# Altium integrated library TI Power Management Battery Management.IntLib: 949 symbols (part 2 of 62)
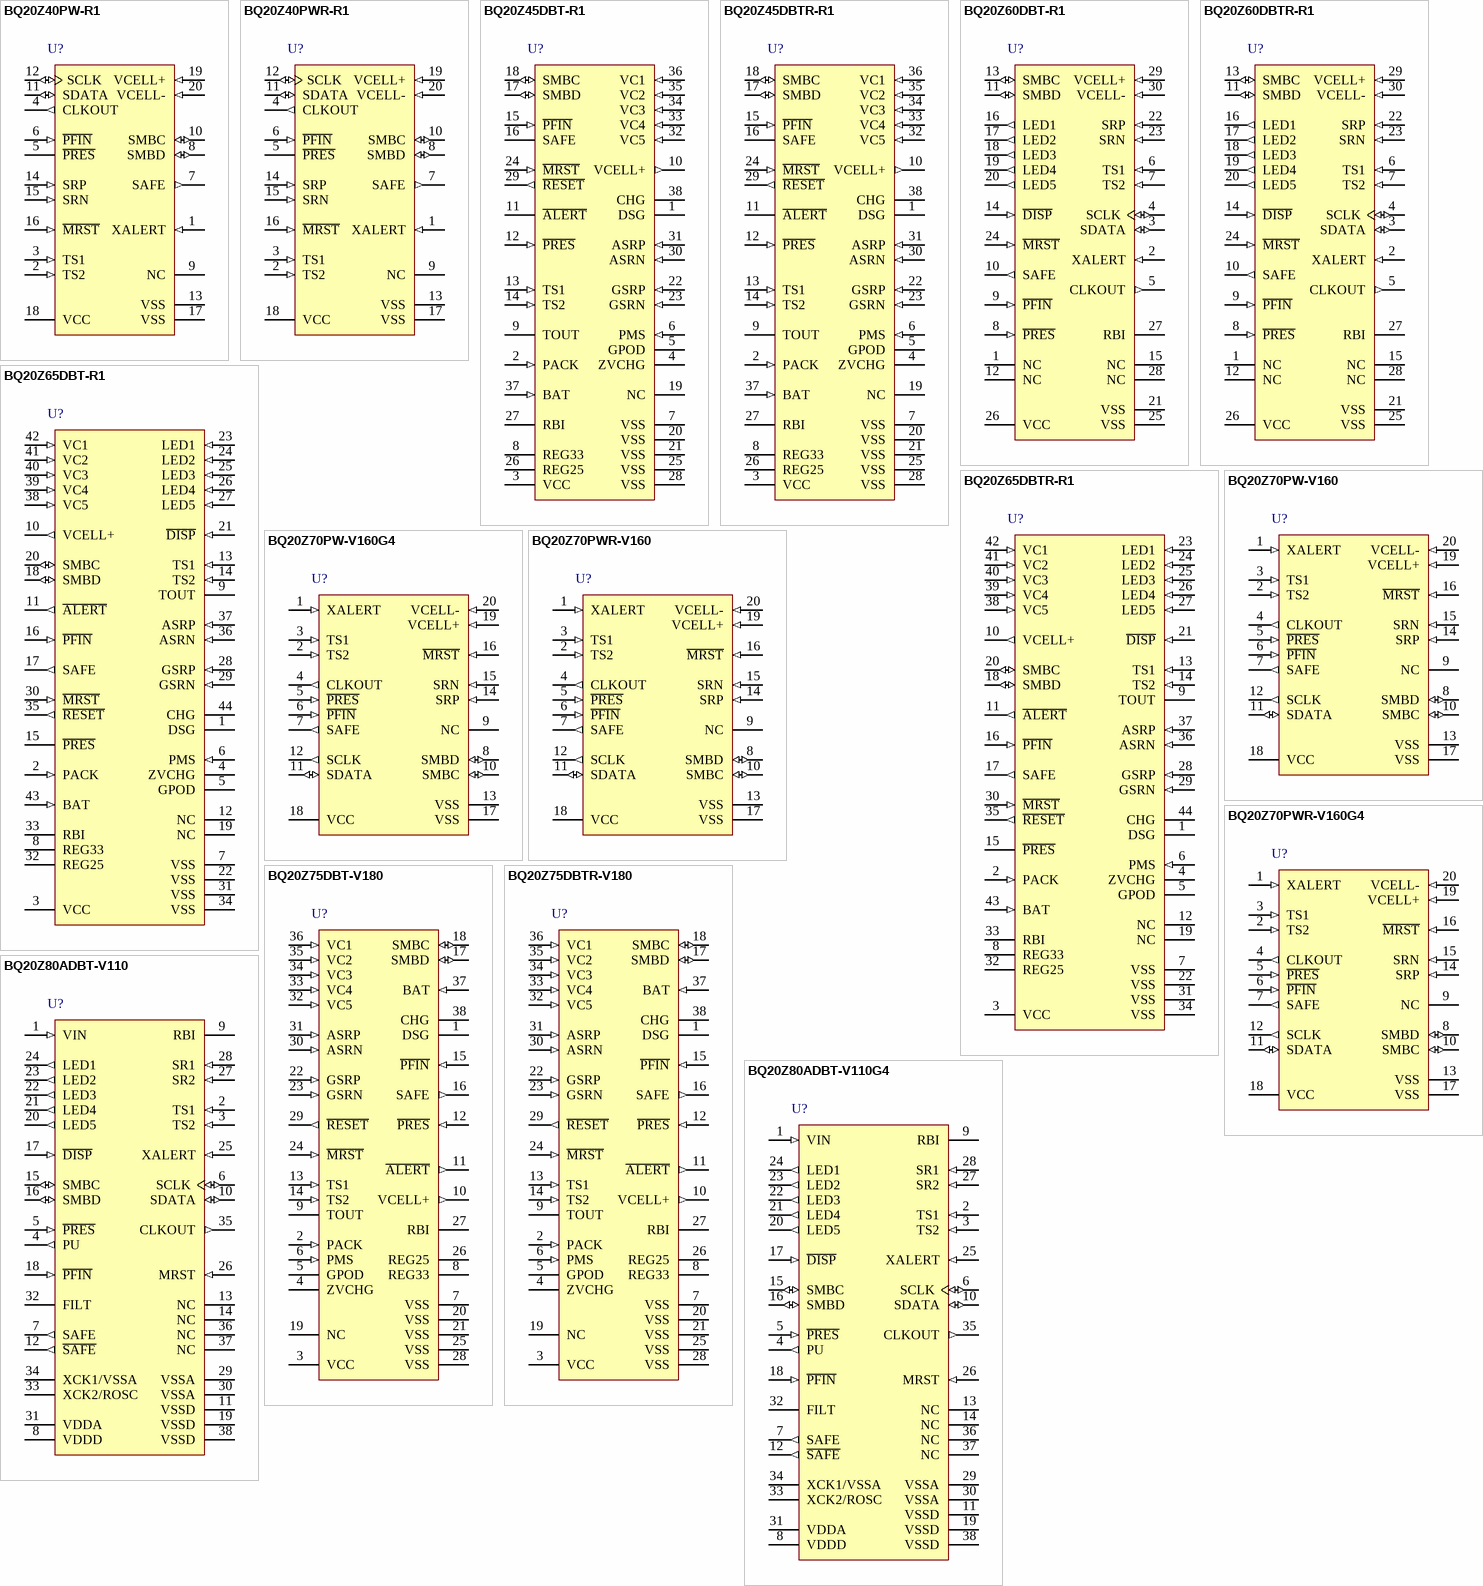
[diagram p35: symbols BQ20Z40PW-R1 to BQ20Z80ADBT-V110G4]

## BQ20Z75DBT-V180
designator U?
SBS 1.1 Compliant Gas Gauge and Protection-Enabled IC with Impedance Track (TM), -40 to 85 degC, 38-pin TSSOP (DBT), Green (RoHS & no Sb/Br); PartNumber: BQ20Z75DBT-V180; Manufacturer: Texas Instruments; Lead Acid: N; SubFamily: Battery Fuel Gauge; DatasheetVersion: SLUSA22; PackageVersion: revI, Mar-2011; PackageReference: DBT38; PackageDescription: 38-Pin Plastic Small Outline 0.5 mm Pitch; Supplier 1: Digi-Key; Supplier Part Number 1: 296-32834-5-ND; Supplier 2: Newark; Supplier Part Number 2: 72R5021; Supplier 3: Mouser; Supplier Part Number 3: 595-BQ20Z75DBT-V180; Eco-Plan: Green (RoHS & no Sb/Br); Li-Ion: N; Li-Polymer: N; NiCd: N; NiMH: N; Over Voltage Protection: N; Mounting Technology: Surface Mount; Code_JEDEC: MO-153; ComponentLink1Description: Datasheet; ComponentLink1URL: http://www.ti.com/general/docs/lit/getliterature.tsp?genericPartNumber=BQ20Z75-V180&fileType=pdf
footprint DBT38_N (TSSOP, 38-Leads, Body 9.7x4.4mm, Pitch 0.5mm, IPC Medium Density)
footprint DBT38_L (TSSOP, 38-Leads, Body 9.7x4.4mm, Pitch 0.5mm, IPC High Density)
footprint DBT38_M (TSSOP, 38-Leads, Body 9.7x4.4mm, Pitch 0.5mm, IPC Low Density)
pins: 1 DSG "High side N-channel discharge FET gate drive", 2 PACK (in) "Battery pack input voltage sense input. It also serves as device wake up when device is in shutdown mode.", 3 VCC (power) "Positive device supply input. Connect to the center connection of the CHG FET and DSG FET to ensure device supply either from battery stack or battery pack input", 4 ZVCHG "P-channel pre-charge FET gate drive", 5 GPOD (oc) "High voltage general purpose open drain output. Can be configured to be used in pre-charge condition", 6 PMS (in) "Pre-charge mode setting input. Connect to PACK to enable 0v pre-charge using charge FET connected at CHG pin. Connect to VSS to disable 0V pre-charge using charge FET connected at CHG pin.", 7 VSS (power) "Negative device power supply input. Connect all VSS pins together for operation of device", 8 REG33 (power) "3.3V regulator output. Connect at least a 2.2uF capacitor to REG33 and VSS", 9 TOUT (power) "Termistor bias supply output", 10 VCELL+ (out) "Internal cell voltage multiplexer and amplifier output. Connect a 0.1uF capacitor to VCELL+ and VSS", 11 ~{ALERT} (out) "Alert output. In case of short circuit condition, overload condition and watchdog time out this pin will be triggered.", 12 ~{PRES} (in) "System / Host present input. Pull up to TOUT", 13 TS1 (in) "Temperature sensor 1 input", 14 TS2 (in) "Temperature sensor 2 input", 15 ~{PFIN} (in) "Fuse blow detection input", 16 SAFE (out) "blow fuse signal output", 17 SMBD (io) "SMBus data line", 18 SMBC (io) "SMBus clock line", 19 NC "Not Connected", 20 VSS (power) "Negative device power supply input. Connect all VSS pins together for operation of device.", 21 VSS (power) "Negative device power supply input. Connect all VSS pins together for operation of device.", 22 GSRP (in) "Coulomb counter differential input. Connect to one side of the sense resistor", 23 GSRN (in) "Coulomb counter differential input. Connect to one side of the sense resistor", 24 ~{MRST} (in) "Reset input for internal CPU core. connect to R\E\S\E\T\ for correct operation of device.", 25 VSS (power) "Negative device power supply input. Connect all VSS pins together for operation of device.", 26 REG25 (power) "2.5V regulator output. Connect at least a 1uF capacitor to REG25 and VSS", 27 RBI (power) "RAM backup input. Connect a capacitor to this pin and VSS to protect loss of RAM data in case of short-circuit condition", 28 VSS (power) "Negative device power supply input. Connect all VSS pins together for operation of device", 29 ~{RESET} (out) "Reset output. Connect to M\S\R\T\.", 30 ASRN (in) "Short-circuit and overload detection differential input", 31 ASRP (in) "Short-circuit and overload detection differential input", 32 VC5 (in) "Cell voltage sense input and cell balancing input for the negative voltage of the bottom cell in cell stack.", 33 VC4 (in) "Cell voltage sense input and cell balancing input for the positive voltage of the bottom cell and the negative voltage of the second lowest cell in cell stack.", 34 VC3 (in) "Cell voltage sense input and cell balancing input for the positive voltage of the second lowest cell in cell stack and the negative voltage of the second highest cell in 4 cell applications.", 35 VC2 (in) "Cell voltage sense input and cell balancing input for the positive voltage of the second highest cell and the negative voltage of the highest cell in 4 cell applications. Connect to VC3 in 2 cell stack applications", 36 VC1 (in) "Cell voltage sense input and cell balancing input for the positive voltage of the highest cell in cell stack in 4 cell applications. Connect to VC2 in 3 or 2 cell stack applications", 37 BAT (in) "Battery stack voltage sense input", 38 CHG "High side N-channel charge FET gate drive"

## BQ20Z75DBTR-V180
designator U?
SBS 1.1 Compliant Gas Gauge and Protection-Enabled IC with Impedance Track (TM), -40 to 85 degC, 38-pin TSSOP (DBT), Green (RoHS & no Sb/Br); PartNumber: BQ20Z75DBTR-V180; Manufacturer: Texas Instruments; Lead Acid: N; SubFamily: Battery Fuel Gauge; DatasheetVersion: SLUSA22; PackageVersion: revI, Mar-2011; PackageReference: DBT38; PackageDescription: 38-Pin Plastic Small Outline 0.5 mm Pitch; Supplier 1: Digi-Key; Supplier Part Number 1: 296-27262-2-ND; Supplier 2: Digi-Key; Supplier Part Number 2: 296-27262-1-ND; Supplier 3: Digi-Key; Supplier Part Number 3: 296-27262-6-ND; Supplier 4: Newark; Supplier Part Number 4: 72R5022; Supplier 5: Mouser; Supplier Part Number 5: 595-BQ20Z75DBTR-V180; Eco-Plan: Green (RoHS & no Sb/Br); Li-Ion: N; Li-Polymer: N; NiCd: N; NiMH: N; Over Voltage Protection: N; Mounting Technology: Surface Mount; Code_JEDEC: MO-153; ComponentLink1Description: Datasheet; ComponentLink1URL: http://www.ti.com/general/docs/lit/getliterature.tsp?genericPartNumber=BQ20Z75-V180&fileType=pdf
footprint DBT38_N (TSSOP, 38-Leads, Body 9.7x4.4mm, Pitch 0.5mm, IPC Medium Density)
footprint DBT38_L (TSSOP, 38-Leads, Body 9.7x4.4mm, Pitch 0.5mm, IPC High Density)
footprint DBT38_M (TSSOP, 38-Leads, Body 9.7x4.4mm, Pitch 0.5mm, IPC Low Density)
pins: 1 DSG "High side N-channel discharge FET gate drive", 2 PACK (in) "Battery pack input voltage sense input. It also serves as device wake up when device is in shutdown mode.", 3 VCC (power) "Positive device supply input. Connect to the center connection of the CHG FET and DSG FET to ensure device supply either from battery stack or battery pack input", 4 ZVCHG "P-channel pre-charge FET gate drive", 5 GPOD (oc) "High voltage general purpose open drain output. Can be configured to be used in pre-charge condition", 6 PMS (in) "Pre-charge mode setting input. Connect to PACK to enable 0v pre-charge using charge FET connected at CHG pin. Connect to VSS to disable 0V pre-charge using charge FET connected at CHG pin.", 7 VSS (power) "Negative device power supply input. Connect all VSS pins together for operation of device", 8 REG33 (power) "3.3V regulator output. Connect at least a 2.2uF capacitor to REG33 and VSS", 9 TOUT (power) "Termistor bias supply output", 10 VCELL+ (out) "Internal cell voltage multiplexer and amplifier output. Connect a 0.1uF capacitor to VCELL+ and VSS", 11 ~{ALERT} (out) "Alert output. In case of short circuit condition, overload condition and watchdog time out this pin will be triggered.", 12 ~{PRES} (in) "System / Host present input. Pull up to TOUT", 13 TS1 (in) "Temperature sensor 1 input", 14 TS2 (in) "Temperature sensor 2 input", 15 ~{PFIN} (in) "Fuse blow detection input", 16 SAFE (out) "blow fuse signal output", 17 SMBD (io) "SMBus data line", 18 SMBC (io) "SMBus clock line", 19 NC "Not Connected", 20 VSS (power) "Negative device power supply input. Connect all VSS pins together for operation of device.", 21 VSS (power) "Negative device power supply input. Connect all VSS pins together for operation of device.", 22 GSRP (in) "Coulomb counter differential input. Connect to one side of the sense resistor", 23 GSRN (in) "Coulomb counter differential input. Connect to one side of the sense resistor", 24 ~{MRST} (in) "Reset input for internal CPU core. connect to R\E\S\E\T\ for correct operation of device.", 25 VSS (power) "Negative device power supply input. Connect all VSS pins together for operation of device.", 26 REG25 (power) "2.5V regulator output. Connect at least a 1uF capacitor to REG25 and VSS", 27 RBI (power) "RAM backup input. Connect a capacitor to this pin and VSS to protect loss of RAM data in case of short-circuit condition", 28 VSS (power) "Negative device power supply input. Connect all VSS pins together for operation of device", 29 ~{RESET} (out) "Reset output. Connect to M\S\R\T\.", 30 ASRN (in) "Short-circuit and overload detection differential input", 31 ASRP (in) "Short-circuit and overload detection differential input", 32 VC5 (in) "Cell voltage sense input and cell balancing input for the negative voltage of the bottom cell in cell stack.", 33 VC4 (in) "Cell voltage sense input and cell balancing input for the positive voltage of the bottom cell and the negative voltage of the second lowest cell in cell stack.", 34 VC3 (in) "Cell voltage sense input and cell balancing input for the positive voltage of the second lowest cell in cell stack and the negative voltage of the second highest cell in 4 cell applications.", 35 VC2 (in) "Cell voltage sense input and cell balancing input for the positive voltage of the second highest cell and the negative voltage of the highest cell in 4 cell applications. Connect to VC3 in 2 cell stack applications", 36 VC1 (in) "Cell voltage sense input and cell balancing input for the positive voltage of the highest cell in cell stack in 4 cell applications. Connect to VC2 in 3 or 2 cell stack applications", 37 BAT (in) "Battery stack voltage sense input", 38 CHG "High side N-channel charge FET gate drive"

## BQ20Z80ADBT-V110
designator U?
SBS 1.1 Compliant Gas Gauge Enabled with Impedance Track Technology for Use with the bq29312A, -40 to 85 degC, 38-pin TSSOP (DBT), Green (RoHS & no Sb/Br); PartNumber: BQ20Z80ADBT-V110; Manufacturer: Texas Instruments; Lead Acid: N; Li-Ion: Y; SubFamily: Battery Fuel Gauge; DatasheetVersion: SLUS782; PackageVersion: revI, Mar-2011; PackageReference: DBT38; PackageDescription: 38-Pin Plastic Small Outline 0.5 mm Pitch; Supplier 1: Digi-Key; Supplier Part Number 1: 296-22554-5-ND; Supplier 2: Newark; Supplier Part Number 2: 54M6816; Supplier 3: Mouser; Supplier Part Number 3: 595-BQ20Z80ADBT-V110; Eco-Plan: Green (RoHS & no Sb/Br); Li-Polymer: N; NiCd: N; NiMH: N; Over Voltage Protection: N; Mounting Technology: Surface Mount; Code_JEDEC: MO-153; ComponentLink1Description: Datasheet; ComponentLink1URL: http://www.ti.com/general/docs/lit/getliterature.tsp?genericPartNumber=BQ20Z80A-V110&fileType=pdf
footprint DBT38_N (TSSOP, 38-Leads, Body 9.7x4.4mm, Pitch 0.5mm, IPC Medium Density)
footprint DBT38_L (TSSOP, 38-Leads, Body 9.7x4.4mm, Pitch 0.5mm, IPC High Density)
footprint DBT38_M (TSSOP, 38-Leads, Body 9.7x4.4mm, Pitch 0.5mm, IPC Low Density)
pins: 1 VIN (in) "Voltage measurement input from the AFE", 2 TS1 (in) "1st Thermistor voltage input connection to monitor temperature", 3 TS2 (in) "2nd Thermistor voltage input connection to monitor temperature", 4 PU (out) "Output to pull up the P\R\E\S\ pin for system detection", 5 ~{PRES} (in) "Active low input to sense system insertion and typically requires additional ESD protection", 6 SCLK (io) "Communication clock to the AFE", 7 SAFE (out) "Active low output to enforce additional level of safety protection; e.g., fuse blow. (Inverse of pin 7)", 8 VDDD (power) "Positive supply for digital circuitry and I/O pins", 9 RBI (power) "Backup power to the bq20z80 data registers during periods of low operating voltage. RBI accepts a storage capacitor or a battery input.", 10 SDATA (io) "Data transfer to and from the AFE", 11 VSSD (power) "Negative supply for digital circuitry", 12 ~{SAFE} (out) "Active low output to enforce additional level of safety protection; e.g., fuse blow. (Inverse of pin 7)", 13 NC "Not used-- leave floating", 14 NC "Not used-- leave floating", 15 SMBC (io) "SMBus clock open-drain bidirectional pin used to clock the data transfer to and from the bq20z80", 16 SMBD (io) "SMBus data open-drain bidirectional pin used to transfer address and data to and from the bq20z80", 17 ~{DISP} (in) "Display control for the LEDs. This pin is typically connected to bq29312A REG via a 100-kohm resistor and a push-button switch to VSSD.", 18 ~{PFIN} (in) "Active low input to detect secondary protector output status and allows the bq20z80 to report the status of the 2nd level protection output", 19 VSSD (power) "Negative supply for digital circuitry", 20 LED5 (out) "LED5 display segment that drives an external LED depending on the firmware configuration", 21 LED4 (out) "LED4 display segment that drives an external LED depending on the firmware configuration", 22 LED3 (out) "LED3 display segment that drives an external LED depending on the firmware configuration", 23 LED2 (out) "LED2 display segment that drives an external LED depending on the firmware configuration", 24 LED1 (out) "LED1 display segment that drives an external LED depending on the firmware configuration", 25 XALERT (in) "Input from bq29312A XALERT output.", 26 MRST (in) "Master reset input that forces the device into reset when held high", 27 SR2 (in) "Connections for a small-value sense resistor to monitor the battery charge- and discharge-current flow", 28 SR1 (in) "Connections for a small-value sense resistor to monitor the battery charge- and discharge-current flow", 29 VSSA (power) "Negative supply for analog circuitry.", 30 VSSA (power) "Negative supply for analog circuitry.", 31 VDDA (power) "Positive supply for analog circuitry", 32 FILT "Analog input connected to the external PLL filter components which are a 150-pF capacitor to VSSA, in parallel with a 61.9-kohm resistor and a 2200-pF capacitor in series. Place these components as close as possible to the (See Datasheet)", 33 XCK2/ROSC "32.768-kHz crystal oscillator output pin or connected to a 100-kohm, 50-ppm or better resistor if the internal oscillator is used.", 34 XCK1/VSSA "32.768-kHz crystal oscillator input pin or connected to VSSA if the internal oscillator is used", 35 CLKOUT (out) "32.768-kHz output for the bq29312. This pin should be directly connected to the AFE.", 36 NC "Not used-- leave floating", 37 NC "Not used-- leave floating", 38 VSSD (power) "Negative supply for digital circuitry"

## BQ20Z80ADBT-V110G4
designator U?
SBS 1.1 Compliant Gas Gauge Enabled with Impedance Track Technology for Use with the bq29312A, -40 to 85 degC, 38-pin TSSOP (DBT), Green (RoHS & no Sb/Br); PartNumber: BQ20Z80ADBT-V110G4; Manufacturer: Texas Instruments; Lead Acid: N; Li-Ion: Y; SubFamily: Battery Fuel Gauge; DatasheetVersion: SLUS782; PackageVersion: revI, Mar-2011; PackageReference: DBT38; PackageDescription: 38-Pin Plastic Small Outline 0.5 mm Pitch; Supplier 1: Digi-Key; Supplier Part Number 1: BQ20Z80ADBT-V110G4-ND; Supplier 2: Mouser; Supplier Part Number 2: 595-20Z80ADBT-V110G4; Eco-Plan: Green (RoHS & no Sb/Br); Li-Polymer: N; NiCd: N; NiMH: N; Over Voltage Protection: N; Mounting Technology: Surface Mount; Code_JEDEC: MO-153; ComponentLink1Description: Datasheet; ComponentLink1URL: http://www.ti.com/general/docs/lit/getliterature.tsp?genericPartNumber=BQ20Z80A-V110&fileType=pdf
footprint DBT38_N (TSSOP, 38-Leads, Body 9.7x4.4mm, Pitch 0.5mm, IPC Medium Density)
footprint DBT38_L (TSSOP, 38-Leads, Body 9.7x4.4mm, Pitch 0.5mm, IPC High Density)
footprint DBT38_M (TSSOP, 38-Leads, Body 9.7x4.4mm, Pitch 0.5mm, IPC Low Density)
pins: 1 VIN (in) "Voltage measurement input from the AFE", 2 TS1 (in) "1st Thermistor voltage input connection to monitor temperature", 3 TS2 (in) "2nd Thermistor voltage input connection to monitor temperature", 4 PU (out) "Output to pull up the P\R\E\S\ pin for system detection", 5 ~{PRES} (in) "Active low input to sense system insertion and typically requires additional ESD protection", 6 SCLK (io) "Communication clock to the AFE", 7 SAFE (out) "Active low output to enforce additional level of safety protection; e.g., fuse blow. (Inverse of pin 7)", 8 VDDD (power) "Positive supply for digital circuitry and I/O pins", 9 RBI (power) "Backup power to the bq20z80 data registers during periods of low operating voltage. RBI accepts a storage capacitor or a battery input.", 10 SDATA (io) "Data transfer to and from the AFE", 11 VSSD (power) "Negative supply for digital circuitry", 12 ~{SAFE} (out) "Active low output to enforce additional level of safety protection; e.g., fuse blow. (Inverse of pin 7)", 13 NC "Not used-- leave floating", 14 NC "Not used-- leave floating", 15 SMBC (io) "SMBus clock open-drain bidirectional pin used to clock the data transfer to and from the bq20z80", 16 SMBD (io) "SMBus data open-drain bidirectional pin used to transfer address and data to and from the bq20z80", 17 ~{DISP} (in) "Display control for the LEDs. This pin is typically connected to bq29312A REG via a 100-kohm resistor and a push-button switch to VSSD.", 18 ~{PFIN} (in) "Active low input to detect secondary protector output status and allows the bq20z80 to report the status of the 2nd level protection output", 19 VSSD (power) "Negative supply for digital circuitry", 20 LED5 (out) "LED5 display segment that drives an external LED depending on the firmware configuration", 21 LED4 (out) "LED4 display segment that drives an external LED depending on the firmware configuration", 22 LED3 (out) "LED3 display segment that drives an external LED depending on the firmware configuration", 23 LED2 (out) "LED2 display segment that drives an external LED depending on the firmware configuration", 24 LED1 (out) "LED1 display segment that drives an external LED depending on the firmware configuration", 25 XALERT (in) "Input from bq29312A XALERT output.", 26 MRST (in) "Master reset input that forces the device into reset when held high", 27 SR2 (in) "Connections for a small-value sense resistor to monitor the battery charge- and discharge-current flow", 28 SR1 (in) "Connections for a small-value sense resistor to monitor the battery charge- and discharge-current flow", 29 VSSA (power) "Negative supply for analog circuitry.", 30 VSSA (power) "Negative supply for analog circuitry.", 31 VDDA (power) "Positive supply for analog circuitry", 32 FILT "Analog input connected to the external PLL filter components which are a 150-pF capacitor to VSSA, in parallel with a 61.9-kohm resistor and a 2200-pF capacitor in series. Place these components as close as possible to the (See Datasheet)", 33 XCK2/ROSC "32.768-kHz crystal oscillator output pin or connected to a 100-kohm, 50-ppm or better resistor if the internal oscillator is used.", 34 XCK1/VSSA "32.768-kHz crystal oscillator input pin or connected to VSSA if the internal oscillator is used", 35 CLKOUT (out) "32.768-kHz output for the bq29312. This pin should be directly connected to the AFE.", 36 NC "Not used-- leave floating", 37 NC "Not used-- leave floating", 38 VSSD (power) "Negative supply for digital circuitry"

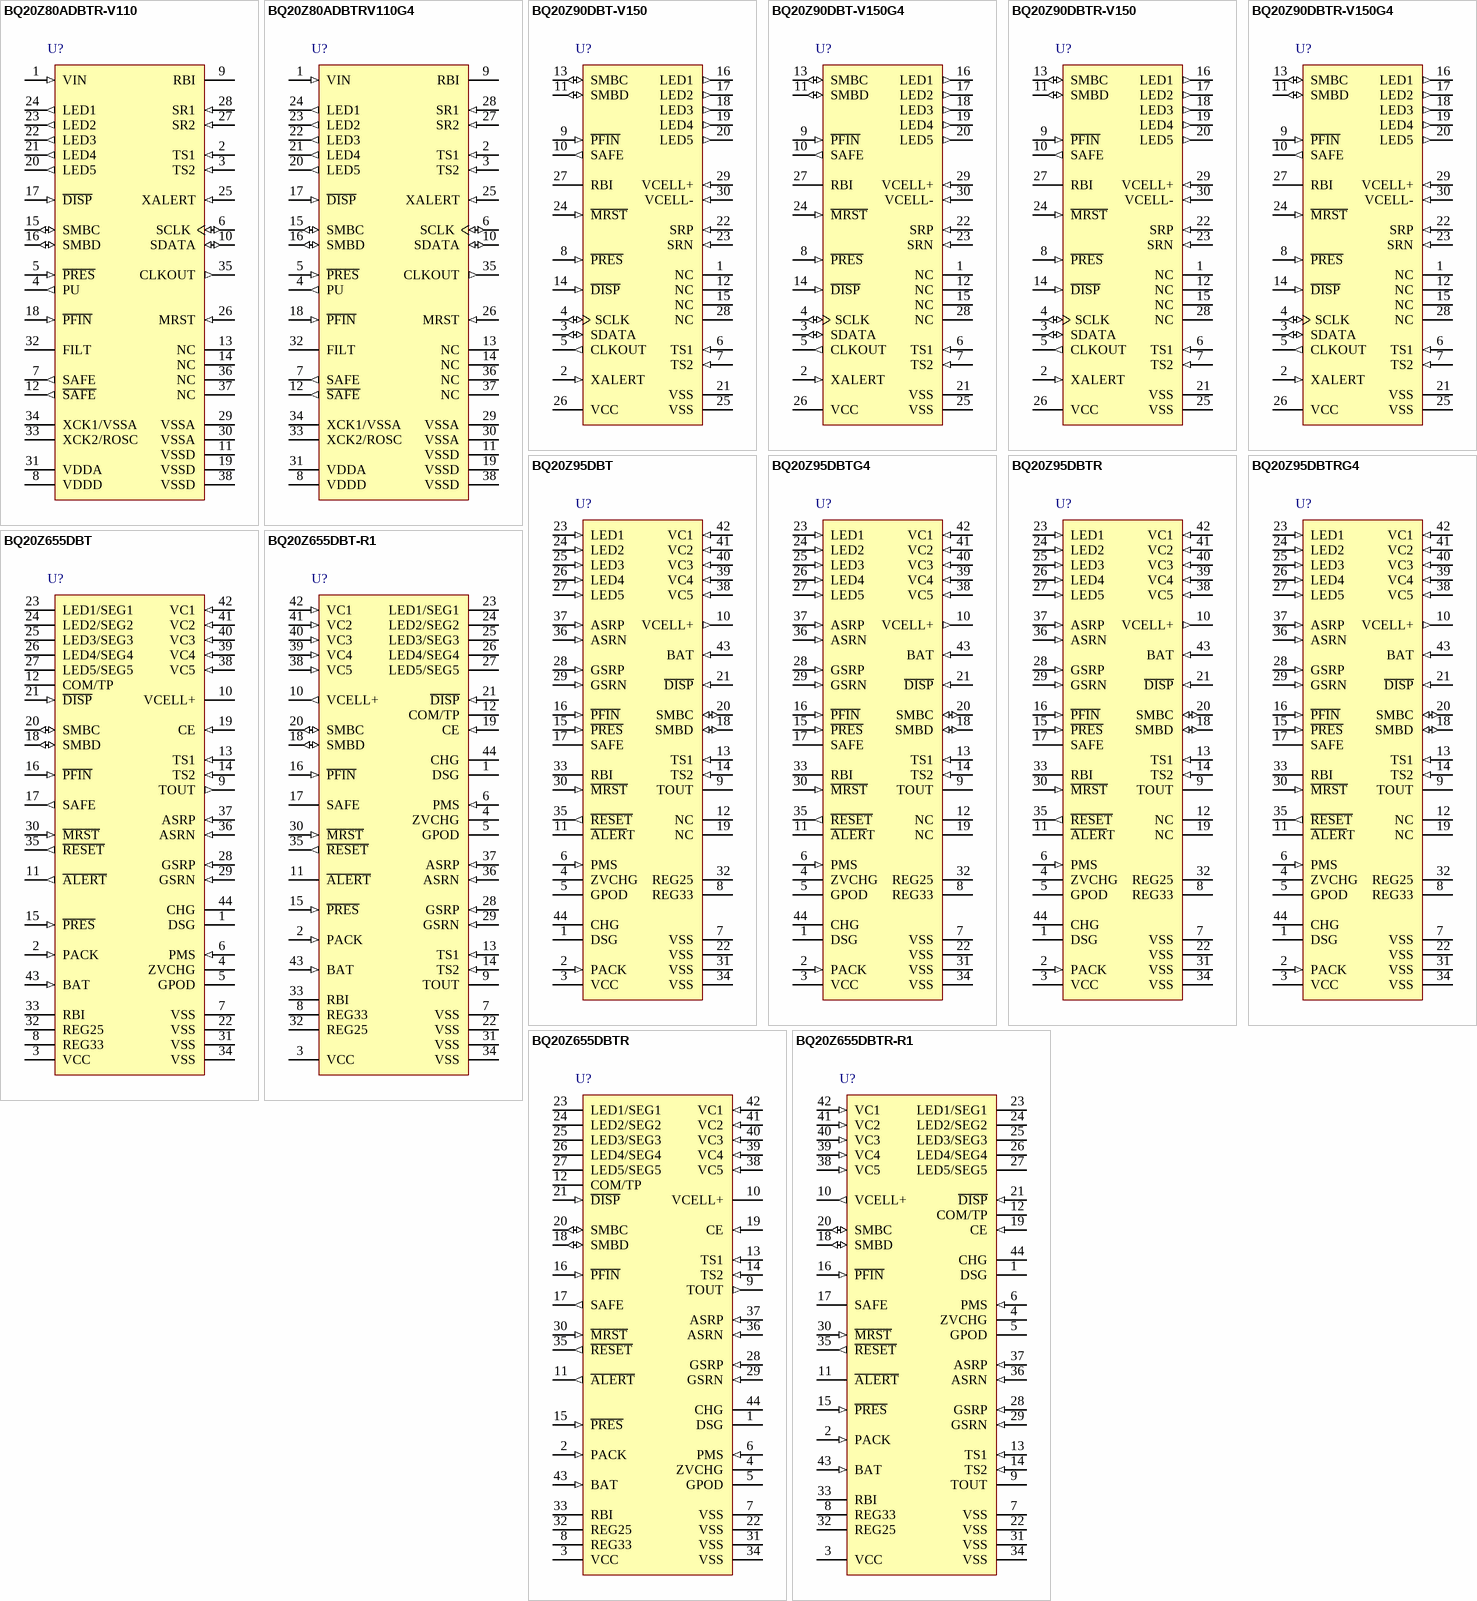
[diagram p1: symbols BQ20Z80ADBTR-V110 to BQ20Z655DBTR-R1]

## BQ20Z80ADBTR-V110
designator U?
SBS 1.1 Compliant Gas Gauge Enabled with Impedance Track Technology for Use with the bq29312A, -40 to 85 degC, 38-pin TSSOP (DBT), Green (RoHS & no Sb/Br); PartNumber: BQ20Z80ADBTR-V110; Manufacturer: Texas Instruments; Lead Acid: N; Li-Ion: Y; SubFamily: Battery Fuel Gauge; DatasheetVersion: SLUS782; PackageVersion: revI, Mar-2011; PackageReference: DBT38; PackageDescription: 38-Pin Plastic Small Outline 0.5 mm Pitch; Supplier 1: Digi-Key; Supplier Part Number 1: BQ20Z80ADBTR-V110-ND; Supplier 2: Newark; Supplier Part Number 2: 54M6817; Supplier 3: Mouser; Supplier Part Number 3: 595-BQ20Z80ADBTRV110; Eco-Plan: Green (RoHS & no Sb/Br); Li-Polymer: N; NiCd: N; NiMH: N; Over Voltage Protection: N; Mounting Technology: Surface Mount; Code_JEDEC: MO-153; ComponentLink1Description: Datasheet; ComponentLink1URL: http://www.ti.com/general/docs/lit/getliterature.tsp?genericPartNumber=BQ20Z80A-V110&fileType=pdf
footprint DBT38_N (TSSOP, 38-Leads, Body 9.7x4.4mm, Pitch 0.5mm, IPC Medium Density)
footprint DBT38_L (TSSOP, 38-Leads, Body 9.7x4.4mm, Pitch 0.5mm, IPC High Density)
footprint DBT38_M (TSSOP, 38-Leads, Body 9.7x4.4mm, Pitch 0.5mm, IPC Low Density)
pins: 1 VIN (in) "Voltage measurement input from the AFE", 2 TS1 (in) "1st Thermistor voltage input connection to monitor temperature", 3 TS2 (in) "2nd Thermistor voltage input connection to monitor temperature", 4 PU (out) "Output to pull up the P\R\E\S\ pin for system detection", 5 ~{PRES} (in) "Active low input to sense system insertion and typically requires additional ESD protection", 6 SCLK (io) "Communication clock to the AFE", 7 SAFE (out) "Active low output to enforce additional level of safety protection; e.g., fuse blow. (Inverse of pin 7)", 8 VDDD (power) "Positive supply for digital circuitry and I/O pins", 9 RBI (power) "Backup power to the bq20z80 data registers during periods of low operating voltage. RBI accepts a storage capacitor or a battery input.", 10 SDATA (io) "Data transfer to and from the AFE", 11 VSSD (power) "Negative supply for digital circuitry", 12 ~{SAFE} (out) "Active low output to enforce additional level of safety protection; e.g., fuse blow. (Inverse of pin 7)", 13 NC "Not used-- leave floating", 14 NC "Not used-- leave floating", 15 SMBC (io) "SMBus clock open-drain bidirectional pin used to clock the data transfer to and from the bq20z80", 16 SMBD (io) "SMBus data open-drain bidirectional pin used to transfer address and data to and from the bq20z80", 17 ~{DISP} (in) "Display control for the LEDs. This pin is typically connected to bq29312A REG via a 100-kohm resistor and a push-button switch to VSSD.", 18 ~{PFIN} (in) "Active low input to detect secondary protector output status and allows the bq20z80 to report the status of the 2nd level protection output", 19 VSSD (power) "Negative supply for digital circuitry", 20 LED5 (out) "LED5 display segment that drives an external LED depending on the firmware configuration", 21 LED4 (out) "LED4 display segment that drives an external LED depending on the firmware configuration", 22 LED3 (out) "LED3 display segment that drives an external LED depending on the firmware configuration", 23 LED2 (out) "LED2 display segment that drives an external LED depending on the firmware configuration", 24 LED1 (out) "LED1 display segment that drives an external LED depending on the firmware configuration", 25 XALERT (in) "Input from bq29312A XALERT output.", 26 MRST (in) "Master reset input that forces the device into reset when held high", 27 SR2 (in) "Connections for a small-value sense resistor to monitor the battery charge- and discharge-current flow", 28 SR1 (in) "Connections for a small-value sense resistor to monitor the battery charge- and discharge-current flow", 29 VSSA (power) "Negative supply for analog circuitry.", 30 VSSA (power) "Negative supply for analog circuitry.", 31 VDDA (power) "Positive supply for analog circuitry", 32 FILT "Analog input connected to the external PLL filter components which are a 150-pF capacitor to VSSA, in parallel with a 61.9-kohm resistor and a 2200-pF capacitor in series. Place these components as close as possible to the (See Datasheet)", 33 XCK2/ROSC "32.768-kHz crystal oscillator output pin or connected to a 100-kohm, 50-ppm or better resistor if the internal oscillator is used.", 34 XCK1/VSSA "32.768-kHz crystal oscillator input pin or connected to VSSA if the internal oscillator is used", 35 CLKOUT (out) "32.768-kHz output for the bq29312. This pin should be directly connected to the AFE.", 36 NC "Not used-- leave floating", 37 NC "Not used-- leave floating", 38 VSSD (power) "Negative supply for digital circuitry"

## BQ20Z80ADBTRV110G4
designator U?
SBS 1.1 Compliant Gas Gauge Enabled with Impedance Track Technology for Use with the bq29312A, -40 to 85 degC, 38-pin TSSOP (DBT), Green (RoHS & no Sb/Br); PartNumber: BQ20Z80ADBTRV110G4; Manufacturer: Texas Instruments; Lead Acid: N; Li-Ion: Y; SubFamily: Battery Fuel Gauge; DatasheetVersion: SLUS782; PackageVersion: revI, Mar-2011; PackageReference: DBT38; PackageDescription: 38-Pin Plastic Small Outline 0.5 mm Pitch; Supplier 1: Digi-Key; Supplier Part Number 1: BQ20Z80ADBTRV110G4-ND; Supplier 2: Mouser; Supplier Part Number 2: 595-20Z80ADBTRV110G4; Eco-Plan: Green (RoHS & no Sb/Br); Li-Polymer: N; NiCd: N; NiMH: N; Over Voltage Protection: N; Mounting Technology: Surface Mount; Code_JEDEC: MO-153; ComponentLink1Description: Datasheet; ComponentLink1URL: http://www.ti.com/general/docs/lit/getliterature.tsp?genericPartNumber=BQ20Z80A-V110&fileType=pdf
footprint DBT38_N (TSSOP, 38-Leads, Body 9.7x4.4mm, Pitch 0.5mm, IPC Medium Density)
footprint DBT38_L (TSSOP, 38-Leads, Body 9.7x4.4mm, Pitch 0.5mm, IPC High Density)
footprint DBT38_M (TSSOP, 38-Leads, Body 9.7x4.4mm, Pitch 0.5mm, IPC Low Density)
pins: 1 VIN (in) "Voltage measurement input from the AFE", 2 TS1 (in) "1st Thermistor voltage input connection to monitor temperature", 3 TS2 (in) "2nd Thermistor voltage input connection to monitor temperature", 4 PU (out) "Output to pull up the P\R\E\S\ pin for system detection", 5 ~{PRES} (in) "Active low input to sense system insertion and typically requires additional ESD protection", 6 SCLK (io) "Communication clock to the AFE", 7 SAFE (out) "Active low output to enforce additional level of safety protection; e.g., fuse blow. (Inverse of pin 7)", 8 VDDD (power) "Positive supply for digital circuitry and I/O pins", 9 RBI (power) "Backup power to the bq20z80 data registers during periods of low operating voltage. RBI accepts a storage capacitor or a battery input.", 10 SDATA (io) "Data transfer to and from the AFE", 11 VSSD (power) "Negative supply for digital circuitry", 12 ~{SAFE} (out) "Active low output to enforce additional level of safety protection; e.g., fuse blow. (Inverse of pin 7)", 13 NC "Not used-- leave floating", 14 NC "Not used-- leave floating", 15 SMBC (io) "SMBus clock open-drain bidirectional pin used to clock the data transfer to and from the bq20z80", 16 SMBD (io) "SMBus data open-drain bidirectional pin used to transfer address and data to and from the bq20z80", 17 ~{DISP} (in) "Display control for the LEDs. This pin is typically connected to bq29312A REG via a 100-kohm resistor and a push-button switch to VSSD.", 18 ~{PFIN} (in) "Active low input to detect secondary protector output status and allows the bq20z80 to report the status of the 2nd level protection output", 19 VSSD (power) "Negative supply for digital circuitry", 20 LED5 (out) "LED5 display segment that drives an external LED depending on the firmware configuration", 21 LED4 (out) "LED4 display segment that drives an external LED depending on the firmware configuration", 22 LED3 (out) "LED3 display segment that drives an external LED depending on the firmware configuration", 23 LED2 (out) "LED2 display segment that drives an external LED depending on the firmware configuration", 24 LED1 (out) "LED1 display segment that drives an external LED depending on the firmware configuration", 25 XALERT (in) "Input from bq29312A XALERT output.", 26 MRST (in) "Master reset input that forces the device into reset when held high", 27 SR2 (in) "Connections for a small-value sense resistor to monitor the battery charge- and discharge-current flow", 28 SR1 (in) "Connections for a small-value sense resistor to monitor the battery charge- and discharge-current flow", 29 VSSA (power) "Negative supply for analog circuitry.", 30 VSSA (power) "Negative supply for analog circuitry.", 31 VDDA (power) "Positive supply for analog circuitry", 32 FILT "Analog input connected to the external PLL filter components which are a 150-pF capacitor to VSSA, in parallel with a 61.9-kohm resistor and a 2200-pF capacitor in series. Place these components as close as possible to the (See Datasheet)", 33 XCK2/ROSC "32.768-kHz crystal oscillator output pin or connected to a 100-kohm, 50-ppm or better resistor if the internal oscillator is used.", 34 XCK1/VSSA "32.768-kHz crystal oscillator input pin or connected to VSSA if the internal oscillator is used", 35 CLKOUT (out) "32.768-kHz output for the bq29312. This pin should be directly connected to the AFE.", 36 NC "Not used-- leave floating", 37 NC "Not used-- leave floating", 38 VSSD (power) "Negative supply for digital circuitry"

## BQ20Z90DBT-V150
designator U?
SBS v1.1 Compliant Gas Gauge for Use with the bq29330, -40 to 85 degC, 30-pin TSSOP (DBT), Green (RoHS & no Sb/Br); PartNumber: BQ20Z90DBT-V150; Manufacturer: Texas Instruments; Lead Acid: N; Li-Ion: Y; SubFamily: Battery Fuel Gauge; DatasheetVersion: SLUS778; PackageVersion: 38596; PackageReference: DBT30; PackageDescription: 30-Pin Thin Shrink Small Outline Package 0.5 mm Pitch; Supplier 1: Digi-Key; Supplier Part Number 1: 296-22555-5-ND; Supplier 2: Farnell; Supplier Part Number 2: 1647887; Supplier 3: Newark; Supplier Part Number 3: 33P6570; Supplier 4: Mouser; Supplier Part Number 4: 595-BQ20Z90DBT-V150; Eco-Plan: Green (RoHS & no Sb/Br); Li-Polymer: Y; NiCd: N; NiMH: N; Over Voltage Protection: N; Mounting Technology: Surface Mount; Code_JEDEC: MO-153; ComponentLink1Description: Datasheet; ComponentLink1URL: http://www.ti.com/general/docs/lit/getliterature.tsp?genericPartNumber=BQ20Z90-V150&fileType=pdf
footprint DBT30_N (TSSOP, 30-Leads, Body 7.8x4.4mm, Pitch 0.5mm, IPC Medium Density)
footprint DBT30_L (TSSOP, 30-Leads, Body 7.8x4.4mm, Pitch 0.5mm, IPC High Density)
footprint DBT30_M (TSSOP, 30-Leads, Body 7.8x4.4mm, Pitch 0.5mm, IPC Low Density)
pins: 1 NC "Not used-- leave floating", 2 XALERT (in) "Input from bq29330 XALERT output.", 3 SDATA (io) "Data transfer to and from bq29330", 4 SCLK (io) "Communication clock to the bq29330", 5 CLKOUT (out) "32.768-kHz output for the bq29330. This pin should be directly connected to the AFE.", 6 TS1 (in) "1st Thermistor voltage input connection to monitor temperature", 7 TS2 (in) "2nd Thermistor voltage input connection to monitor temperature", 8 ~{PRES} (in) "Active low input to sense system insertion and typically requires additional ESD protection", 9 ~{PFIN} (in) "Active low input to detect secondary protector output status and allows the bq20z90 to report the status of the 2nd level protection output", 10 SAFE (out) "Active high output to enforce additional level of safety protection; e.g., fuse blow.", 11 SMBD (io) "SMBus data open-drain bidirectional pin used to transfer address and data to and from the bq20z90", 12 NC "Not used-- leave floating", 13 SMBC (io) "SMBus clock open-drain bidirectional pin used to clock the data transfer to and from the bq20z90", 14 ~{DISP} (in) "Display control for the LEDs. This pin is typically connected to bq29330 REG via a 100-k ohm resistor and a push-button switch to VSS.", 15 NC "Not used-- leave floating", 16 LED1 (out) "LED1 display segment that drives an external LED depending on the firmware configuration", 17 LED2 (out) "LED2 display segment that drives an external LED depending on the firmware configuration", 18 LED3 (out) "LED3 display segment that drives an external LED depending on the firmware configuration", 19 LED4 (out) "LED4 display segment that drives an external LED depending on the firmware configuration", 20 LED5 (out) "LED5 display segment that drives an external LED depending on the firmware configuration", 21 VSS (power) "Connected I/O pin to VSS", 22 SRP (in) "Connections to the top of a small-value sense resistor to monitor the battery charge- and discharge-current flow", 23 SRN (in) "Connections to the bottom of a small-value sense resistor to monitor the battery charge- and discharge-current flow", 24 ~{MRST} (in) "Master reset input that forces the device into reset when held low. Must be held high for normal operation", 25 VSS (power) "Negative Supply Voltage", 26 VCC (power) "Positive Supply Voltage", 27 RBI (power) "Backup power to the bq20z90 data registers during periods of low operating voltage. RBI accepts a storage capacitor or a battery input.", 28 NC "Not used-- leave floating", 29 VCELL+ (in) "Input from bq29330 used to read a scaled value of individual cell voltages", 30 VCELL- (in) "Input from bq29330 used to read a scaled value of individual cell voltages"

## BQ20Z90DBT-V150G4
designator U?
SBS v1.1 Compliant Gas Gauge for Use with the bq29330, -40 to 85 degC, 30-pin TSSOP (DBT), Green (RoHS & no Sb/Br); PartNumber: BQ20Z90DBT-V150G4; Manufacturer: Texas Instruments; Lead Acid: N; Li-Ion: Y; SubFamily: Battery Fuel Gauge; DatasheetVersion: SLUS778; PackageVersion: 38596; PackageReference: DBT30; PackageDescription: 30-Pin Thin Shrink Small Outline Package 0.5 mm Pitch; Supplier 1: Digi-Key; Supplier Part Number 1: BQ20Z90DBT-V150G4-ND; Supplier 2: Mouser; Supplier Part Number 2: 595-BQ20Z90DBTV150G4; Eco-Plan: Green (RoHS & no Sb/Br); Li-Polymer: Y; NiCd: N; NiMH: N; Over Voltage Protection: N; Mounting Technology: Surface Mount; Code_JEDEC: MO-153; ComponentLink1Description: Datasheet; ComponentLink1URL: http://www.ti.com/general/docs/lit/getliterature.tsp?genericPartNumber=BQ20Z90-V150&fileType=pdf
footprint DBT30_N (TSSOP, 30-Leads, Body 7.8x4.4mm, Pitch 0.5mm, IPC Medium Density)
footprint DBT30_L (TSSOP, 30-Leads, Body 7.8x4.4mm, Pitch 0.5mm, IPC High Density)
footprint DBT30_M (TSSOP, 30-Leads, Body 7.8x4.4mm, Pitch 0.5mm, IPC Low Density)
pins: 1 NC "Not used-- leave floating", 2 XALERT (in) "Input from bq29330 XALERT output.", 3 SDATA (io) "Data transfer to and from bq29330", 4 SCLK (io) "Communication clock to the bq29330", 5 CLKOUT (out) "32.768-kHz output for the bq29330. This pin should be directly connected to the AFE.", 6 TS1 (in) "1st Thermistor voltage input connection to monitor temperature", 7 TS2 (in) "2nd Thermistor voltage input connection to monitor temperature", 8 ~{PRES} (in) "Active low input to sense system insertion and typically requires additional ESD protection", 9 ~{PFIN} (in) "Active low input to detect secondary protector output status and allows the bq20z90 to report the status of the 2nd level protection output", 10 SAFE (out) "Active high output to enforce additional level of safety protection; e.g., fuse blow.", 11 SMBD (io) "SMBus data open-drain bidirectional pin used to transfer address and data to and from the bq20z90", 12 NC "Not used-- leave floating", 13 SMBC (io) "SMBus clock open-drain bidirectional pin used to clock the data transfer to and from the bq20z90", 14 ~{DISP} (in) "Display control for the LEDs. This pin is typically connected to bq29330 REG via a 100-k ohm resistor and a push-button switch to VSS.", 15 NC "Not used-- leave floating", 16 LED1 (out) "LED1 display segment that drives an external LED depending on the firmware configuration", 17 LED2 (out) "LED2 display segment that drives an external LED depending on the firmware configuration", 18 LED3 (out) "LED3 display segment that drives an external LED depending on the firmware configuration", 19 LED4 (out) "LED4 display segment that drives an external LED depending on the firmware configuration", 20 LED5 (out) "LED5 display segment that drives an external LED depending on the firmware configuration", 21 VSS (power) "Connected I/O pin to VSS", 22 SRP (in) "Connections to the top of a small-value sense resistor to monitor the battery charge- and discharge-current flow", 23 SRN (in) "Connections to the bottom of a small-value sense resistor to monitor the battery charge- and discharge-current flow", 24 ~{MRST} (in) "Master reset input that forces the device into reset when held low. Must be held high for normal operation", 25 VSS (power) "Negative Supply Voltage", 26 VCC (power) "Positive Supply Voltage", 27 RBI (power) "Backup power to the bq20z90 data registers during periods of low operating voltage. RBI accepts a storage capacitor or a battery input.", 28 NC "Not used-- leave floating", 29 VCELL+ (in) "Input from bq29330 used to read a scaled value of individual cell voltages", 30 VCELL- (in) "Input from bq29330 used to read a scaled value of individual cell voltages"

## BQ20Z90DBTR-V150
designator U?
SBS v1.1 Compliant Gas Gauge for Use with the bq29330, -40 to 85 degC, 30-pin TSSOP (DBT), Green (RoHS & no Sb/Br); PartNumber: BQ20Z90DBTR-V150; Manufacturer: Texas Instruments; Lead Acid: N; Li-Ion: Y; SubFamily: Battery Fuel Gauge; DatasheetVersion: SLUS778; PackageVersion: 38596; PackageReference: DBT30; PackageDescription: 30-Pin Thin Shrink Small Outline Package 0.5 mm Pitch; Supplier 1: Digi-Key; Supplier Part Number 1: BQ20Z90DBTR-V150-ND; Supplier 2: Newark; Supplier Part Number 2: 54M6819; Supplier 3: Mouser; Supplier Part Number 3: 595-BQ20Z90DBTR-V150; Eco-Plan: Green (RoHS & no Sb/Br); Li-Polymer: Y; NiCd: N; NiMH: N; Over Voltage Protection: N; Mounting Technology: Surface Mount; Code_JEDEC: MO-153; ComponentLink1Description: Datasheet; ComponentLink1URL: http://www.ti.com/general/docs/lit/getliterature.tsp?genericPartNumber=BQ20Z90-V150&fileType=pdf
footprint DBT30_N (TSSOP, 30-Leads, Body 7.8x4.4mm, Pitch 0.5mm, IPC Medium Density)
footprint DBT30_L (TSSOP, 30-Leads, Body 7.8x4.4mm, Pitch 0.5mm, IPC High Density)
footprint DBT30_M (TSSOP, 30-Leads, Body 7.8x4.4mm, Pitch 0.5mm, IPC Low Density)
pins: 1 NC "Not used-- leave floating", 2 XALERT (in) "Input from bq29330 XALERT output.", 3 SDATA (io) "Data transfer to and from bq29330", 4 SCLK (io) "Communication clock to the bq29330", 5 CLKOUT (out) "32.768-kHz output for the bq29330. This pin should be directly connected to the AFE.", 6 TS1 (in) "1st Thermistor voltage input connection to monitor temperature", 7 TS2 (in) "2nd Thermistor voltage input connection to monitor temperature", 8 ~{PRES} (in) "Active low input to sense system insertion and typically requires additional ESD protection", 9 ~{PFIN} (in) "Active low input to detect secondary protector output status and allows the bq20z90 to report the status of the 2nd level protection output", 10 SAFE (out) "Active high output to enforce additional level of safety protection; e.g., fuse blow.", 11 SMBD (io) "SMBus data open-drain bidirectional pin used to transfer address and data to and from the bq20z90", 12 NC "Not used-- leave floating", 13 SMBC (io) "SMBus clock open-drain bidirectional pin used to clock the data transfer to and from the bq20z90", 14 ~{DISP} (in) "Display control for the LEDs. This pin is typically connected to bq29330 REG via a 100-k ohm resistor and a push-button switch to VSS.", 15 NC "Not used-- leave floating", 16 LED1 (out) "LED1 display segment that drives an external LED depending on the firmware configuration", 17 LED2 (out) "LED2 display segment that drives an external LED depending on the firmware configuration", 18 LED3 (out) "LED3 display segment that drives an external LED depending on the firmware configuration", 19 LED4 (out) "LED4 display segment that drives an external LED depending on the firmware configuration", 20 LED5 (out) "LED5 display segment that drives an external LED depending on the firmware configuration", 21 VSS (power) "Connected I/O pin to VSS", 22 SRP (in) "Connections to the top of a small-value sense resistor to monitor the battery charge- and discharge-current flow", 23 SRN (in) "Connections to the bottom of a small-value sense resistor to monitor the battery charge- and discharge-current flow", 24 ~{MRST} (in) "Master reset input that forces the device into reset when held low. Must be held high for normal operation", 25 VSS (power) "Negative Supply Voltage", 26 VCC (power) "Positive Supply Voltage", 27 RBI (power) "Backup power to the bq20z90 data registers during periods of low operating voltage. RBI accepts a storage capacitor or a battery input.", 28 NC "Not used-- leave floating", 29 VCELL+ (in) "Input from bq29330 used to read a scaled value of individual cell voltages", 30 VCELL- (in) "Input from bq29330 used to read a scaled value of individual cell voltages"

## BQ20Z90DBTR-V150G4
designator U?
SBS v1.1 Compliant Gas Gauge for Use with the bq29330, -40 to 85 degC, 30-pin TSSOP (DBT), Green (RoHS & no Sb/Br); PartNumber: BQ20Z90DBTR-V150G4; Manufacturer: Texas Instruments; Lead Acid: N; Li-Ion: Y; SubFamily: Battery Fuel Gauge; DatasheetVersion: SLUS778; PackageVersion: 38596; PackageReference: DBT30; PackageDescription: 30-Pin Thin Shrink Small Outline Package 0.5 mm Pitch; Supplier 1: Digi-Key; Supplier Part Number 1: BQ20Z90DBTR-V150G4-ND; Supplier 2: Mouser; Supplier Part Number 2: 595-Q20Z90DBTRV150G4; Eco-Plan: Green (RoHS & no Sb/Br); Li-Polymer: Y; NiCd: N; NiMH: N; Over Voltage Protection: N; Mounting Technology: Surface Mount; Code_JEDEC: MO-153; ComponentLink1Description: Datasheet; ComponentLink1URL: http://www.ti.com/general/docs/lit/getliterature.tsp?genericPartNumber=BQ20Z90-V150&fileType=pdf
footprint DBT30_N (TSSOP, 30-Leads, Body 7.8x4.4mm, Pitch 0.5mm, IPC Medium Density)
footprint DBT30_L (TSSOP, 30-Leads, Body 7.8x4.4mm, Pitch 0.5mm, IPC High Density)
footprint DBT30_M (TSSOP, 30-Leads, Body 7.8x4.4mm, Pitch 0.5mm, IPC Low Density)
pins: 1 NC "Not used-- leave floating", 2 XALERT (in) "Input from bq29330 XALERT output.", 3 SDATA (io) "Data transfer to and from bq29330", 4 SCLK (io) "Communication clock to the bq29330", 5 CLKOUT (out) "32.768-kHz output for the bq29330. This pin should be directly connected to the AFE.", 6 TS1 (in) "1st Thermistor voltage input connection to monitor temperature", 7 TS2 (in) "2nd Thermistor voltage input connection to monitor temperature", 8 ~{PRES} (in) "Active low input to sense system insertion and typically requires additional ESD protection", 9 ~{PFIN} (in) "Active low input to detect secondary protector output status and allows the bq20z90 to report the status of the 2nd level protection output", 10 SAFE (out) "Active high output to enforce additional level of safety protection; e.g., fuse blow.", 11 SMBD (io) "SMBus data open-drain bidirectional pin used to transfer address and data to and from the bq20z90", 12 NC "Not used-- leave floating", 13 SMBC (io) "SMBus clock open-drain bidirectional pin used to clock the data transfer to and from the bq20z90", 14 ~{DISP} (in) "Display control for the LEDs. This pin is typically connected to bq29330 REG via a 100-k ohm resistor and a push-button switch to VSS.", 15 NC "Not used-- leave floating", 16 LED1 (out) "LED1 display segment that drives an external LED depending on the firmware configuration", 17 LED2 (out) "LED2 display segment that drives an external LED depending on the firmware configuration", 18 LED3 (out) "LED3 display segment that drives an external LED depending on the firmware configuration", 19 LED4 (out) "LED4 display segment that drives an external LED depending on the firmware configuration", 20 LED5 (out) "LED5 display segment that drives an external LED depending on the firmware configuration", 21 VSS (power) "Connected I/O pin to VSS", 22 SRP (in) "Connections to the top of a small-value sense resistor to monitor the battery charge- and discharge-current flow", 23 SRN (in) "Connections to the bottom of a small-value sense resistor to monitor the battery charge- and discharge-current flow", 24 ~{MRST} (in) "Master reset input that forces the device into reset when held low. Must be held high for normal operation", 25 VSS (power) "Negative Supply Voltage", 26 VCC (power) "Positive Supply Voltage", 27 RBI (power) "Backup power to the bq20z90 data registers during periods of low operating voltage. RBI accepts a storage capacitor or a battery input.", 28 NC "Not used-- leave floating", 29 VCELL+ (in) "Input from bq29330 used to read a scaled value of individual cell voltages", 30 VCELL- (in) "Input from bq29330 used to read a scaled value of individual cell voltages"

## BQ20Z95DBT
designator U?
SBS 1.1-Compliant Gas Gauge Enabled with Impedance Track, -40 to 85 degC, 44-pin TSSOP (DBT), Green (RoHS & no Sb/Br); PartNumber: BQ20Z95DBT; Manufacturer: Texas Instruments; Lead Acid: N; Li-Ion: Y; SubFamily: Battery Fuel Gauge; DatasheetVersion: SLUS757B; PackageVersion: 38596; PackageReference: DBT44; PackageDescription: 44-Pin Thin Shrink Small Outline Package 0.5 mm Pitch; Supplier 1: Digi-Key; Supplier Part Number 1: 296-22543-5-ND; Supplier 2: Farnell; Supplier Part Number 2: 1754747; Supplier 3: Newark; Supplier Part Number 3: 55M5020; Supplier 4: Mouser; Supplier Part Number 4: 595-BQ20Z95DBT; Eco-Plan: Green (RoHS & no Sb/Br); Li-Polymer: Y; NiCd: N; NiMH: N; Over Voltage Protection: N; Mounting Technology: Surface Mount; ComponentLink1Description: Datasheet; ComponentLink1URL: http://www.ti.com/general/docs/lit/getliterature.tsp?genericPartNumber=BQ20Z95&fileType=pdf
footprint DBT44_N (TSSOP, 44-Leads, Body 11.3x4.4mm, Pitch 0.5mm, IPC Medium Density)
footprint DBT44_L (TSSOP, 44-Leads, Body 11.3x4.4mm, Pitch 0.5mm, IPC High Density)
footprint DBT44_M (TSSOP, 44-Leads, Body 11.3x4.4mm, Pitch 0.5mm, IPC Low Density)
pins: 1 DSG "High side N-chan discharge FET gate drive", 2 PACK (in) "Battery pack input voltage sense input. It also serves as device wake up when device is in shutdown mode", 3 VCC (power) "Positive device supply input. Connect to the center connection of the CHG FET and DSG FET to ensure device supply either from battery stack or battery pack input", 4 ZVCHG "P-chan pre-charge FET gate drive", 5 GPOD (oc) "High voltage general purpose open drain output. Can be configured to be used in pre-charge condition", 6 PMS (in) "Pre-charge mode setting input. Connect to PACK to enable 0v pre-charge using charge FET connected at CHG pin. Connect to VSS to disable 0V pre-charge using charge FET connected at CHG pin", 7 VSS (power) "Negative device power supply input. Connect all VSS pins together for operation of device", 8 REG33 (power) "3.3V regulator output. Connect at least a 2.2uF capacitor to REG33 and VSS", 9 TOUT "Thermistor bias supply output", 10 VCELL+ (out) "Internal cell voltage multiplexer and amplifier output. Connect a 0.1uF capacitor to VCELL+ and VSS", 11 ~{ALER}T (oc) "Alert output. In case of short circuit condition, overload condition and watchdog time out this pin will be triggered.", 12 NC "Not connected", 13 TS1 (in) "Temperature sensor 1 input", 14 TS2 (in) "Temperature sensor 2 input", 15 ~{PRES} (in) "System / Host present input. Pull up to TOUT", 16 ~{PFIN} (in) "Fuse blow detection input", 17 SAFE (oc) "blow fuse signal output", 18 SMBD (io) "SMBus data line", 19 NC "Not connected", 20 SMBC (io) "SMBus clock line", 21 ~{DISP} (in) "Display enable input", 22 VSS (power) "Negative device power supply input. Connect all VSS pins together for operation of device", 23 LED1 (in) "LED 1 current sink input", 24 LED2 (in) "LED 2 current sink input", 25 LED3 (in) "LED 3 current sink input", 26 LED4 (in) "LED 4 current sink input", 27 LED5 (in) "LED 5 current sink input", 28 GSRP (in) "Coulomb counter differential input. Connect to one side of the sense resistor", 29 GSRN (in) "Coulomb counter differential input. Connect to one side of the sense resistor", 30 ~{MRST} (in) "Reset input for internal CPU core. connect to RESET for correct operation of device", 31 VSS (power) "Negative device power supply input. Connect all VSS pins together for operation of device", 32 REG25 (power) "2.5V regulator output. Connect at least a 1uF capacitor to REG25 and VSS", 33 RBI (power) "RAM backup input. Connect a capacitor to this pin and VSS to protect loss of RAM data in case of short circuit condition", 34 VSS (power) "Negative device power supply input. Connect all VSS pins together for operation of device", 35 ~{RESET} (out) "Reset output. Connect to M\S\R\T\.", 36 ASRN (in) "Short circuit and overload detection differential input. Connect to sense resistor", 37 ASRP (in) "Short circuit and overload detection differential input. Connect to sense resistor", 38 VC5 (in) "Cell voltage sense input and cell balancing input for the negative voltage of the bottom cell in cell stack", 39 VC4 (in) "Cell voltage sense input and cell balancing input for the positive voltage of the bottom cell and the negative voltage of the second lowest cell in cell stack.", 40 VC3 (in) "Cell voltage sense input and cell balancing input for the positive voltage of the second lowest cell in cell stack and the negative voltage of the second highest cell in 4 cell applications.", 41 VC2 (in) "Cell voltage sense input and cell balancing input for the positive voltage of the second highest cell and the negative voltage of the highest cell in 4 cell applications. Connect to VC3 in 2 cell stack applications", 42 VC1 (in) "Cell voltage sense input and cell balancing input for the positive voltage of the highest cell in cell stack in 4 cell applications. Connect to VC2 in 3 or 2 cell stack applications", 43 BAT (in) "Battery stack voltage sense input", 44 CHG "High side N-chan charge FET gate drive"